# Altium footprint library pcblib.PcbLib: 44 footprints (part 2 of 3)
Each footprint in its own frame and in the unit in brackets; x right, y up, seen from the top. Pads: shape width x height; smd on the part's side, far side on the other; paste and mask are expansions set on the pad; w line width, h text height; cw(c..) or ccw(c..) is an arc to the next point about the centre after c.
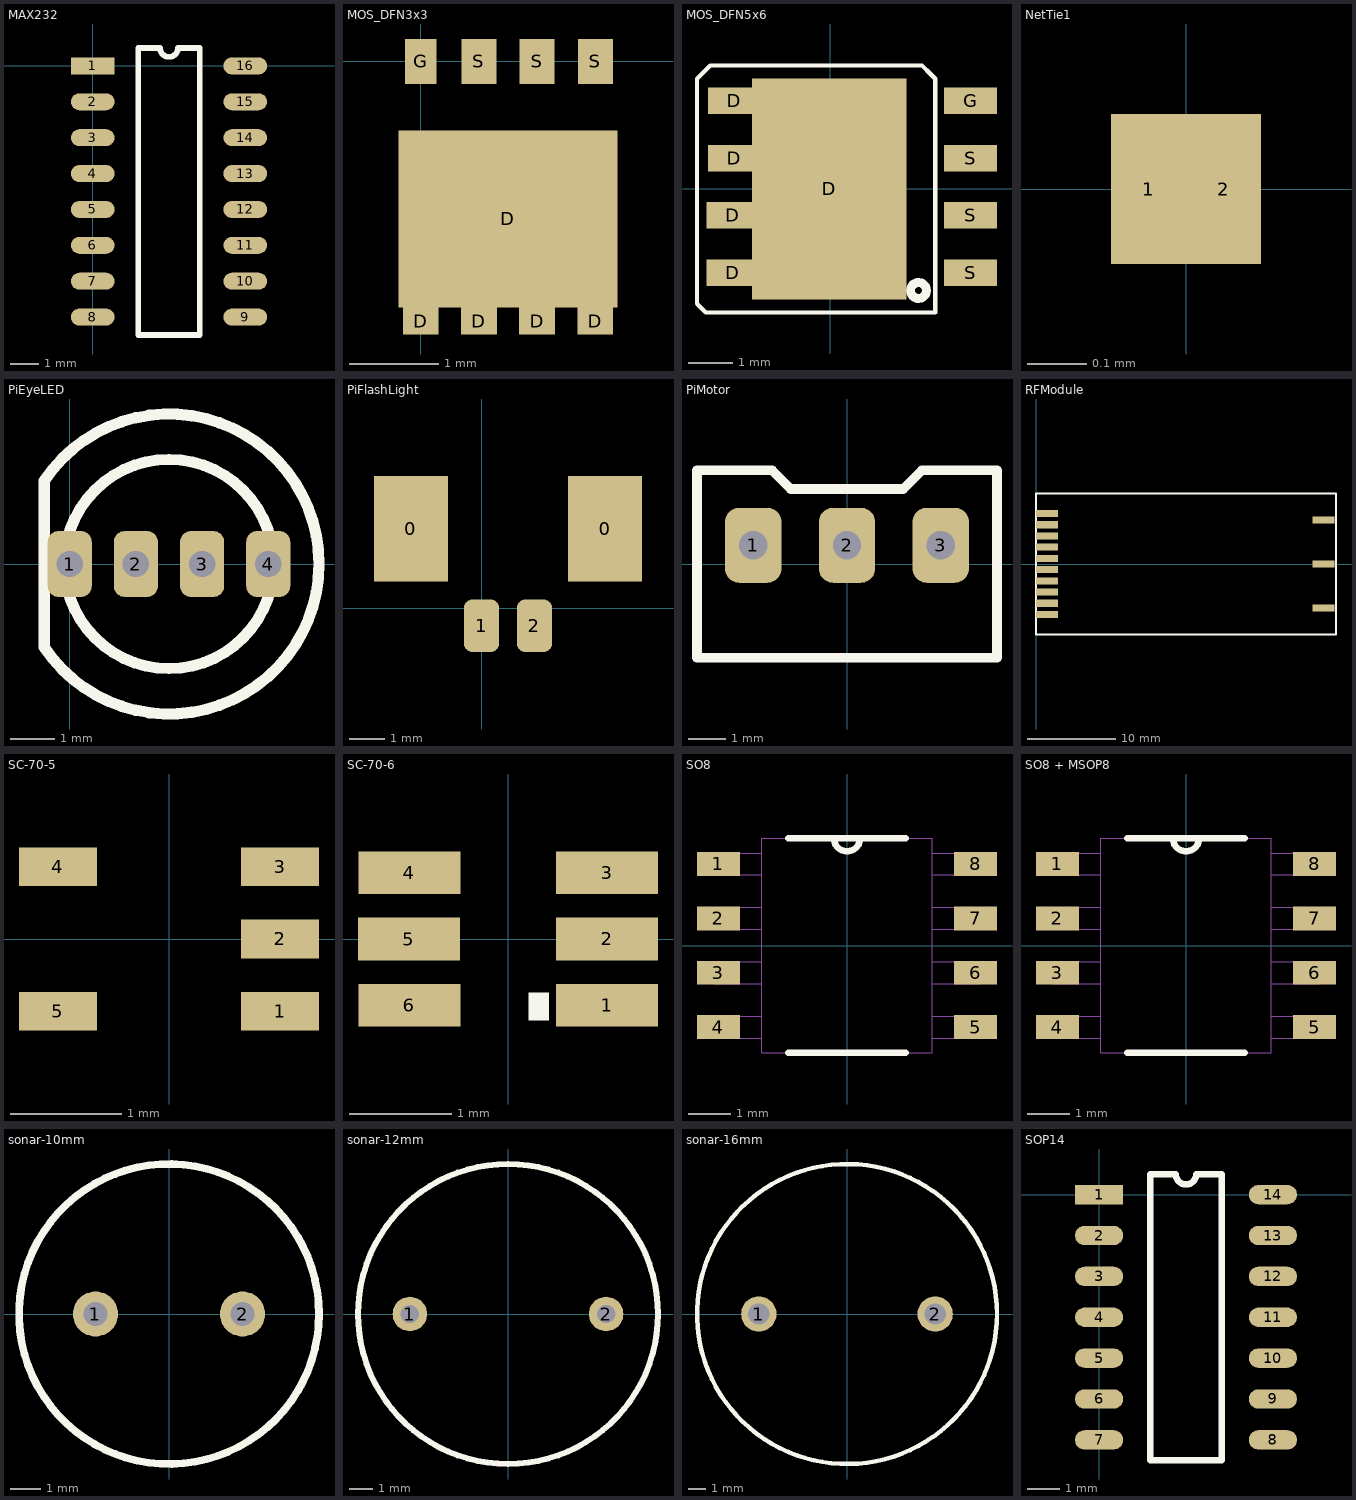
[diagram p1: the footprints below, top view; thin cyan lines are the x and y axes]

## MAX232 [mm]
pads (16):
  rect 1.55x0.6 smd: 1(0,0)
  oval 1.55x0.6 smd: 2(0,-1.27) 3(0,-2.54) 4(0,-3.81) 5(0,-5.08) 6(0,-6.35) 7(0,-7.62) 8(0,-8.89) 9(5.4,-8.89) 10(5.4,-7.62) 11(5.4,-6.35) 12(5.4,-5.08) 13(5.4,-3.81) 14(5.4,-2.54) 15(5.4,-1.27) 16(5.4,0)
Top Overlay:
  lines w0.2: 1.61,-9.525 3.79,-9.525 3.79,0.635 3.017,0.635 cw(c2.7,0.635) 2.382,0.635 1.61,0.635 1.61,-9.525

## MOS_DFN3x3 [mm]
pads (9):
  rect 0.4x0.3 smd: D(0,-2.9) D(0.65,-2.9) D(1.3,-2.9) D(1.95,-2.9)
  rect 2.45x1.98 smd: D(0.975,-1.76)
  rect 0.35x0.5 smd: G(0,0)
  rect 0.39x0.5 smd: S(0.65,0) S(1.3,0) S(1.95,0)
3D body: height 1, standoff 0, extent -0.535,-2.872 2.465,0.128

## MOS_DFN5x6 [mm]
pads (9):
  rect 1.2x0.6 smd: D(-2.215,-1.905) D(-2.215,-0.605) D(-2.175,0.695) D(-2.175,1.995) G(3.175,1.995) S(3.175,-1.905) S(3.175,-0.605) S(3.175,0.695)
  rect 3.5x5 smd: D(-0.025,-0.005)
Top Overlay:
  circle w0.2: c1.995,-2.305 r0.18
  lines w0.1: -3.025,-2.605 -2.825,-2.805 2.375,-2.805 2.375,2.495 2.275,2.595 2.075,2.795 -2.725,2.795 -3.025,2.495 -3.025,-2.605

## NetTie1 [mil]
pads (2):
  rect 5x10 smd: 1(-2.5,0) 2(2.5,0)

## PiEyeLED [mm]
pads (4):
  rrect50% 1x1.5 hole 0.6: 1(0,0) 2(1.5,0) 3(3,0) 4(4.5,0)
Top Overlay:
  circle w0.254: c2.25,0 r2.372
  lines w0.254: -0.579,-1.886 ccw(c2.25,0) -0.579,1.886 -0.579,-1.886

## PiFlashLight [mm]
pads (4):
  rect 2.1x3 smd: 0(-2,2.25) 0(3.5,2.25)
  rrect50% 1x1.5 smd: 1(0,-0.5) 2(1.5,-0.5)

## PiMotor [mm]
pads (3):
  rrect50% 1.5x2 hole 0.75: 1(-2.5,0.5) 2(0,0.5) 3(2.5,0.5)
Top Overlay:
  lines w0.254: -4,-2.5 4,-2.5 4,2.5 2,2.5 1.5,2 -1.5,2 -2,2.5 -4,2.5 -4,-2.5

## RFModule [mm]
pads (13):
  rect 2.5x0.8 smd: 0(32.6,-5) 0(32.6,0) 0(32.6,5) 1(1.27,5.715) 2(1.27,4.445) 3(1.27,3.175) 4(1.27,1.905) 5(1.27,0.635) 6(1.27,-0.635) 7(1.27,-1.905) 8(1.27,-3.175) 9(1.27,-4.445) 10(1.27,-5.715)
Top Overlay:
  lines w0.254: 0,-8 0,8 34,8 34,-8 0,-8

## SC-70-5 [mm]
pads (5):
  rect 0.7x0.35 smd mask+0.051: 1(1,-0.65) 2(1,0) 3(1,0.65) 4(-1,0.65) 5(-1,-0.65)

## SC-70-6 [mm]
pads (6):
  rect 1x0.42 smd mask+0.051: 1(0.97,-0.65) 2(0.97,0) 3(0.97,0.65) 4(-0.97,0.65) 5(-0.975,0) 6(-0.97,-0.65)
Top Overlay:
  rectangle: 0.2,-0.8 0.4,-0.525

## SO8 [mm]
pads (8):
  rect 1x0.559 smd: 1(-3,1.905) 2(-3,0.635) 3(-3,-0.635) 4(-3,-1.905) 5(3,-1.905) 6(3,-0.635) 7(3,0.635) 8(3,1.905)
Top Overlay:
  lines w0.152: -1.374,-2.502 1.374,-2.502 ; -1.374,2.502 1.374,2.502 ; -0.305,2.502 ccw(c0,2.502) 0.305,2.502
Mechanical 1:
  lines w0: -0.305,2.502 ccw(c0,2.502) 0.305,2.502 ; -3.099,-2.159 -1.994,-2.159 -1.994,-1.651 -3.099,-1.651 -3.099,-2.159 ; -3.099,-0.889 -1.994,-0.889 -1.994,-0.381 -3.099,-0.381 -3.099,-0.889 ; -3.099,0.381 -1.994,0.381 -1.994,0.889 -3.099,0.889 -3.099,0.381 ; -3.099,1.651 -1.994,1.651 -1.994,2.159 -3.099,2.159 -3.099,1.651 ; -1.994,-2.502 -1.994,2.502 1.994,2.502 1.994,-2.502 -1.994,-2.502 ; 1.994,-2.159 3.099,-2.159 3.099,-1.651 1.994,-1.651 1.994,-2.159 ; 1.994,-0.889 3.099,-0.889 3.099,-0.381 1.994,-0.381 1.994,-0.889 ; 1.994,0.381 3.099,0.381 3.099,0.889 1.994,0.889 1.994,0.381 ; 1.994,1.651 3.099,1.651 3.099,2.159 1.994,2.159 1.994,1.651
3D body "D0008A.stp": height 1.63, standoff 0, extent -3,-2.45 3,2.45

## SO8 + MSOP8 [mm]
pads (8):
  rect 1x0.559 smd: 1(-3,1.905) 2(-3,0.635) 3(-3,-0.635) 4(-3,-1.905) 5(3,-1.905) 6(3,-0.635) 7(3,0.635) 8(3,1.905)
Top Overlay:
  lines w0.152: -1.374,-2.502 1.374,-2.502 ; -1.374,2.502 1.374,2.502 ; -0.305,2.502 ccw(c0,2.502) 0.305,2.502
Mechanical 1:
  lines w0: -0.305,2.502 ccw(c0,2.502) 0.305,2.502 ; -3.099,-2.159 -1.994,-2.159 -1.994,-1.651 -3.099,-1.651 -3.099,-2.159 ; -3.099,-0.889 -1.994,-0.889 -1.994,-0.381 -3.099,-0.381 -3.099,-0.889 ; -3.099,0.381 -1.994,0.381 -1.994,0.889 -3.099,0.889 -3.099,0.381 ; -3.099,1.651 -1.994,1.651 -1.994,2.159 -3.099,2.159 -3.099,1.651 ; -1.994,-2.502 -1.994,2.502 1.994,2.502 1.994,-2.502 -1.994,-2.502 ; 1.994,-2.159 3.099,-2.159 3.099,-1.651 1.994,-1.651 1.994,-2.159 ; 1.994,-0.889 3.099,-0.889 3.099,-0.381 1.994,-0.381 1.994,-0.889 ; 1.994,0.381 3.099,0.381 3.099,0.889 1.994,0.889 1.994,0.381 ; 1.994,1.651 3.099,1.651 3.099,2.159 1.994,2.159 1.994,1.651
3D body "D0008A.stp": height 1.63, standoff 0, extent -3,-2.45 3,2.45

## sonar-10mm [mm]
pads (2):
  round 1.5 hole 0.8: 1(-2.45,0) 2(2.45,0)
Top Overlay:
  circle w0.254: c0,0 r5

## sonar-12mm [mm]
pads (2):
  round 1.5 hole 0.8: 1(-4.25,0) 2(4.25,0)
Top Overlay:
  circle w0.254: c0,0 r6.5

## sonar-16mm [mm]
pads (2):
  round 2 hole 1.2: 1(-5,0) 2(5,0)
Top Overlay:
  circle w0.254: c0,0 r8.5
3D body: height 12, standoff 0, extent -7.937,-7.984 8,7.984

## SOP14 [mm]
pads (14):
  rect 1.5x0.6 smd: 1(0,0)
  oval 1.5x0.6 smd: 2(0,-1.27) 3(0,-2.54) 4(0,-3.81) 5(0,-5.08) 6(0,-6.35) 7(0,-7.62) 8(5.4,-7.62) 9(5.4,-6.35) 10(5.4,-5.08) 11(5.4,-3.81) 12(5.4,-2.54) 13(5.4,-1.27) 14(5.4,0)
Top Overlay:
  lines w0.2: 1.585,-8.255 1.585,0.635 2.382,0.635 ccw(c2.7,0.635) 3.017,0.635 3.815,0.635 3.815,-8.255 1.585,-8.255